# Altium footprint library STM32.PcbLib: 2 footprints
Each footprint in its own frame and in the unit in brackets; x right, y up, seen from the top. Pads: shape width x height; smd on the part's side, far side on the other; paste and mask are expansions set on the pad; w line width, h text height; cw(c..) or ccw(c..) is an arc to the next point about the centre after c.
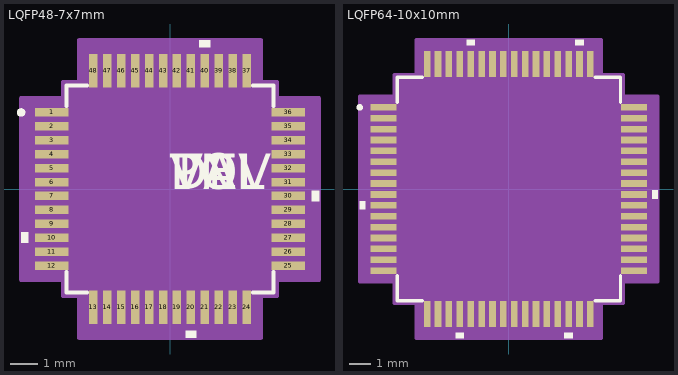
[diagram p0: the footprints below, top view; thin cyan lines are the x and y axes]

## LQFP48-7x7mm [mm]
pads (48):
  rect 1.194x0.305 smd: 1(-4.25,2.75) 2(-4.25,2.25) 3(-4.25,1.75) 4(-4.25,1.25) 5(-4.25,0.75) 6(-4.25,0.25) 7(-4.25,-0.25) 8(-4.25,-0.75) 9(-4.25,-1.25) 10(-4.25,-1.75) 11(-4.25,-2.25) 12(-4.25,-2.75) 25(4.25,-2.75) 26(4.25,-2.25) 27(4.25,-1.75) 28(4.25,-1.25) 29(4.25,-0.75) 30(4.25,-0.25) 31(4.25,0.25) 32(4.25,0.75) 33(4.25,1.25) 34(4.25,1.75) 35(4.25,2.25) 36(4.25,2.75)
  rect 0.305x1.194 smd: 13(-2.75,-4.25) 14(-2.25,-4.25) 15(-1.75,-4.25) 16(-1.25,-4.25) 17(-0.75,-4.25) 18(-0.25,-4.25) 19(0.25,-4.25) 20(0.75,-4.25) 21(1.25,-4.25) 22(1.75,-4.25) 23(2.25,-4.25) 24(2.75,-4.25) 37(2.75,4.25) 38(2.25,4.25) 39(1.75,4.25) 40(1.25,4.25) 41(0.75,4.25) 42(0.25,4.25) 43(-0.25,4.25) 44(-0.75,4.25) 45(-1.25,4.25) 46(-1.75,4.25) 47(-2.25,4.25) 48(-2.75,4.25)
Top Overlay:
  circle w0.152: c-5.351,2.75 r0.076
  region: -5.101,-1.559 -5.355,-1.559 -5.355,-1.94 -5.101,-1.94
  region: 0.941,-5.101 0.56,-5.101 0.56,-5.355 0.941,-5.355
  region: 5.101,-0.059 5.355,-0.059 5.355,-0.44 5.101,-0.44
  region: 1.441,5.101 1.06,5.101 1.06,5.355 1.441,5.355
  lines w0.152: -3.721,-2.979 -3.721,-3.721 -2.979,-3.721 ; -3.721,2.979 -3.721,3.721 -2.979,3.721 ; 2.979,-3.721 3.721,-3.721 3.721,-2.979 ; 2.979,3.721 3.721,3.721 3.721,2.979
  text "PN" at 0,0 h1.27
  text "DEV" at 0,0 h1.27
  text "VAL" at 0,0 h1.27
  text "TOL" at 0,0 h1.27
Mechanical 13:
  circle w0: c-3.018,2.75 r0.076
  text "RefDes2" at 0,0 h1.27
Mechanical 15:
  region: -3.258,-3.848 -3.848,-3.848 -3.848,-3.258 -5.355,-3.258 -5.355,3.258 -3.848,3.258 -3.848,3.848 -3.258,3.848 -3.258,5.355 3.258,5.355 3.258,3.848 3.848,3.848 3.848,3.258 5.355,3.258 5.355,-3.258 3.848,-3.258 3.848,-3.848 3.258,-3.848 3.258,-5.355 -3.258,-5.355
  lines w0.152: -5.355,-3.258 -3.848,-3.258 -3.848,-3.848 -3.258,-3.848 -3.258,-5.355 3.258,-5.355 3.258,-3.848 3.848,-3.848 3.848,-3.258 5.355,-3.258 5.355,3.258 3.848,3.258 3.848,3.848 3.258,3.848 3.258,5.355 -3.258,5.355 -3.258,3.848 -3.848,3.848 -3.848,3.258 -5.355,3.258 -5.355,-3.258
Multi-Layer:
  text "Copyright (C) 2016 Accelerated Designs. All rights reserved" at 0,0 h0.03
3D body "LQFP48-7x7mm.stp": height 1.6, standoff 0, extent -4.497,-4.497 4.497,4.497

## LQFP64-10x10mm [mm]
pads (64):
  rect 1.194x0.305 smd: 1(-5.75,3.75) 2(-5.75,3.25) 3(-5.75,2.75) 4(-5.75,2.25) 5(-5.75,1.75) 6(-5.75,1.25) 7(-5.75,0.75) 8(-5.75,0.25) 9(-5.75,-0.25) 10(-5.75,-0.75) 11(-5.75,-1.25) 12(-5.75,-1.75) 13(-5.75,-2.25) 14(-5.75,-2.75) 15(-5.75,-3.25) 16(-5.75,-3.75) 33(5.75,-3.75) 34(5.75,-3.25) 35(5.75,-2.75) 36(5.75,-2.25) 37(5.75,-1.75) 38(5.75,-1.25) 39(5.75,-0.75) 40(5.75,-0.25) 41(5.75,0.25) 42(5.75,0.75) 43(5.75,1.25) 44(5.75,1.75) 45(5.75,2.25) 46(5.75,2.75) 47(5.75,3.25) 48(5.75,3.75)
  rect 0.305x1.194 smd: 17(-3.75,-5.75) 18(-3.25,-5.75) 19(-2.75,-5.75) 20(-2.25,-5.75) 21(-1.75,-5.75) 22(-1.25,-5.75) 23(-0.75,-5.75) 24(-0.25,-5.75) 25(0.25,-5.75) 26(0.75,-5.75) 27(1.25,-5.75) 28(1.75,-5.75) 29(2.25,-5.75) 30(2.75,-5.75) 31(3.25,-5.75) 32(3.75,-5.75) 49(3.75,5.75) 50(3.25,5.75) 51(2.75,5.75) 52(2.25,5.75) 53(1.75,5.75) 54(1.25,5.75) 55(0.75,5.75) 56(0.25,5.75) 57(-0.25,5.75) 58(-0.75,5.75) 59(-1.25,5.75) 60(-1.75,5.75) 61(-2.25,5.75) 62(-2.75,5.75) 63(-3.25,5.75) 64(-3.75,5.75)
Top Overlay:
  circle w0.152: c-6.851,3.75 r0.076
  region: -1.559,6.601 -1.94,6.601 -1.94,6.855 -1.559,6.855
  region: 3.441,6.601 3.06,6.601 3.06,6.855 3.441,6.855
  region: -6.601,-0.56 -6.855,-0.56 -6.855,-0.941 -6.601,-0.941
  region: 2.94,-6.601 2.559,-6.601 2.559,-6.855 2.94,-6.855
  region: -2.06,-6.601 -2.441,-6.601 -2.441,-6.855 -2.06,-6.855
  region: 6.601,-0.059 6.855,-0.059 6.855,-0.44 6.601,-0.44
  lines w0.152: -5.131,-3.975 -5.131,-5.131 -3.975,-5.131 ; -5.131,3.975 -5.131,5.131 -3.975,5.131 ; 3.975,-5.131 5.131,-5.131 5.131,-3.975 ; 3.975,5.131 5.131,5.131 5.131,3.975
Mechanical 13:
  circle w0: c-4.518,3.75 r0.076
Mechanical 15:
  region: -4.258,-5.258 -5.258,-5.258 -5.258,-4.258 -6.855,-4.258 -6.855,4.258 -5.258,4.258 -5.258,5.258 -4.258,5.258 -4.258,6.855 4.258,6.855 4.258,5.258 5.258,5.258 5.258,4.258 6.855,4.258 6.855,-4.258 5.258,-4.258 5.258,-5.258 4.258,-5.258 4.258,-6.855 -4.258,-6.855
  lines w0.152: -6.855,-4.258 -6.855,4.258 -5.258,4.258 -5.258,5.258 -4.258,5.258 -4.258,6.855 4.258,6.855 4.258,5.258 5.258,5.258 5.258,4.258 6.855,4.258 6.855,-4.258 5.258,-4.258 5.258,-5.258 4.258,-5.258 4.258,-6.855 -4.258,-6.855 -4.258,-5.258 -5.258,-5.258 -5.258,-4.258 -6.855,-4.258
3D body "LQFP64-10x10mm.stp": height 1.6, standoff 0, extent -5.997,-5.997 5.997,5.997